# EAGLE library part VEML6070 (library we-sensor)
Vishay VEML6070 UV Light Sensor (I2C)
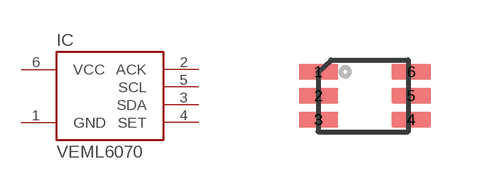
[diagram p4: symbol with the pads of OPLGA; footprint OPLGA]

Designator prefix IC

## VEML6070  [OPLGA]
1  GND  pwr
2  ACK
3  SDA
4  SET
5  SCL
6  VCC  pwr

## Footprint OPLGA (pad centres in mm)
smd 1 x 0.4: 1 -1.12,0.6; 2 -1.12,0; 3 -1.12,-0.6; 4 1.2,-0.6; 5 1.2,0; 6 1.2,0.6